# Altium footprint library TEST_POINT.PcbLib: 2 footprints
Each footprint in its own frame and in the unit in brackets; x right, y up, seen from the top. Pads: shape width x height; smd on the part's side, far side on the other; paste and mask are expansions set on the pad; w line width, h text height; cw(c..) or ccw(c..) is an arc to the next point about the centre after c.
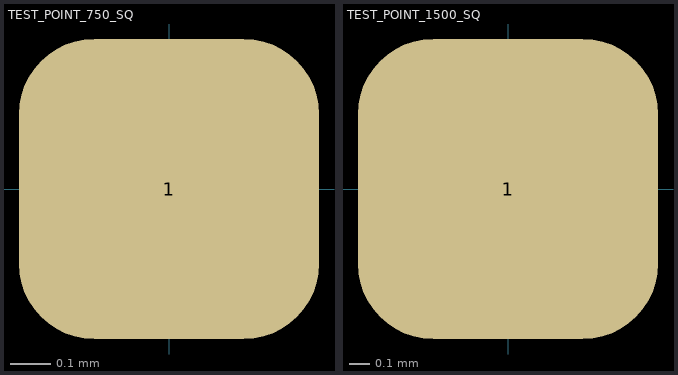
[diagram p0: the footprints below, top view; thin cyan lines are the x and y axes]

## TEST_POINT_750_SQ [mm]
pads (1):
  rrect50% 0.75x0.75 smd paste-2539.97: 1(0,0)

## TEST_POINT_1500_SQ [mm]
pads (1):
  rrect50% 1.5x1.5 smd paste-2539.97: 1(0,0)